# Altium schematic symbol library MPU6050.SchLib: 1 symbol
Pins are listed as number, name and electrical type; pins without a type are passive.

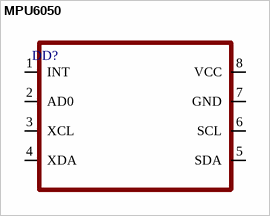
[diagram p0: symbol MPU6050]

## MPU6050
designator DD?
footprint MPU6050
pins: 1 INT, 2 AD0, 3 XCL, 4 XDA, 5 SDA, 6 SCL, 7 GND, 8 VCC